# EAGLE library part 1363 (library bodger)
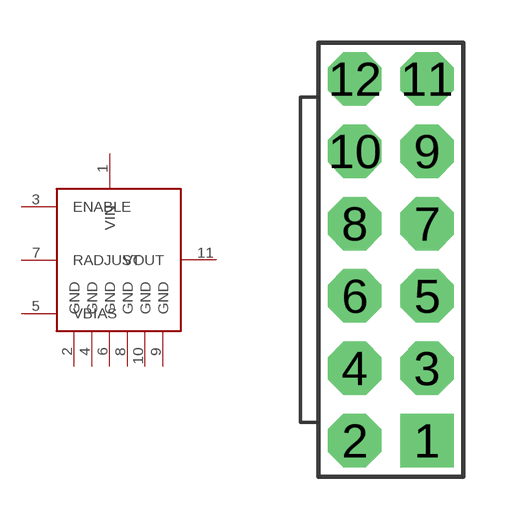
[diagram p30: symbol with the pads of TAYLOREDGE-1363; footprint TAYLOREDGE-1363]

Designator prefix -

## 1363  [TAYLOREDGE-1363]
1  VIN  pwr
2  GND  pwr
3  ENABLE  in
4  GND  pwr
5  VBIAS  out
6  GND  pwr
7  RADJUST  in
8  GND  pwr
9  GND  pwr
10  GND  pwr
11  VOUT  out

## Footprint TAYLOREDGE-1363 (pad centres in mm)
drill 1.016 pad 1.88 square: 1 1.27,-6.35
drill 1.016 pad 1.88 octagon: 2 -1.27,-6.35; 3 1.27,-3.81; 4 -1.27,-3.81; 5 1.27,-1.27; 6 -1.27,-1.27; 7 1.27,1.27; 8 -1.27,1.27; 9 1.27,3.81; 10 -1.27,3.81; 11 1.27,6.35; 12 -1.27,6.35